# EAGLE library part B06B-HCMKK (library REV BLDC)
Automotive Connectors 6P AIT Header Top Position (BLK) Source: Datasheet <https://componentsearchengine.com/Datasheets/1/B06B-HCMKK.pdf>
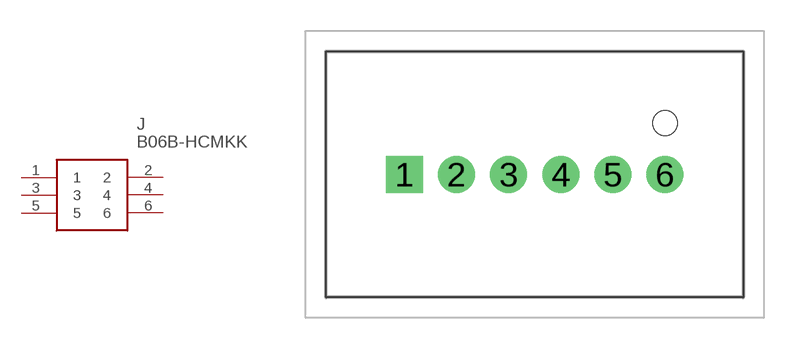
[diagram p4: symbol with the pads of B06BHCMKK; footprint B06BHCMKK]

Designator prefix J

## B06B-HCMKK (DESCRIPTION: Automotive Connectors 6P AIT Header Top Position (BLK); HEIGHT: 13.7mm; MANUFACTURER_NAME: JST (JAPAN SOLDERLESS TERMINALS); MANUFACTURER_PART_NUMBER: B06B-HCMKK; MOUSER_PART_NUMBER: 306-B06B-HCMKK; MOUSER_PRICE-STOCK: https://www.mouser.com/Search/Refine.aspx?Keyword=306-B06B-HCMKK)  [B06BHCMKK]
1  1
2  2
3  3
4  4
5  5
6  6

## Footprint B06BHCMKK (pad centres in mm)
B06B-HCMKK-1
drill 1.2 pad 1.8 square: 1 0,0
drill 1.2 pad 1.8: 2 2.54,0; 3 5.08,0; 4 7.62,0; 5 10.16,0; 6 12.7,0
hole 1.2 at 12.7,2.5